# EAGLE library part ARDUCAM (library SobieskiSat2)
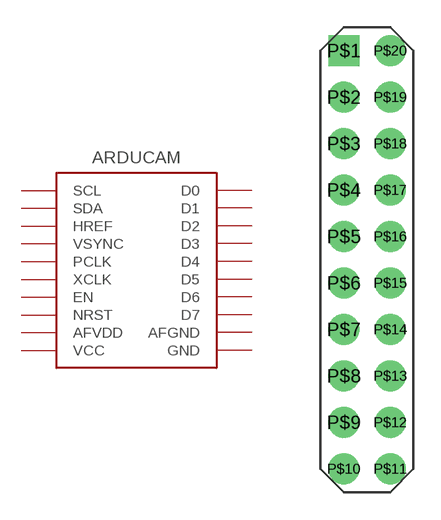
[diagram p11: symbol with the pads of ARDUCAM_DIP; footprint ARDUCAM_DIP]

Designator prefix -

## ARDUCAM  [ARDUCAM_DIP]
P$1  VCC
P$2  SCL
P$3  VSYNC
P$4  PCLK
P$5  D7
P$6  D5
P$7  D3
P$8  D1
P$9  NRST
P$10  AFVDD
P$11  AFGND
P$12  EN
P$13  D0
P$14  D2
P$15  D4
P$16  D6
P$17  XCLK
P$18  HREF
P$19  SDA
P$20  GND

## Footprint ARDUCAM_DIP (pad centres in mm)
drill 1.016 pad 1.676 square: P$1 -1.27,11.43
drill 1.016 pad 1.676: P$2 -1.27,8.89; P$3 -1.27,6.35; P$4 -1.27,3.81; P$5 -1.27,1.27; P$6 -1.27,-1.27; P$7 -1.27,-3.81; P$8 -1.27,-6.35; P$9 -1.27,-8.89; P$10 -1.27,-11.43; P$11 1.27,-11.43; P$12 1.27,-8.89; P$13 1.27,-6.35; P$14 1.27,-3.81; P$15 1.27,-1.27; P$16 1.27,1.27; P$17 1.27,3.81; P$18 1.27,6.35; P$19 1.27,8.89; P$20 1.27,11.43